# Altium schematic symbol library power_board_evm.SCHLIB: 67 symbols (part 1 of 2)
Pins are listed as number, name and electrical type; pins without a type are passive.

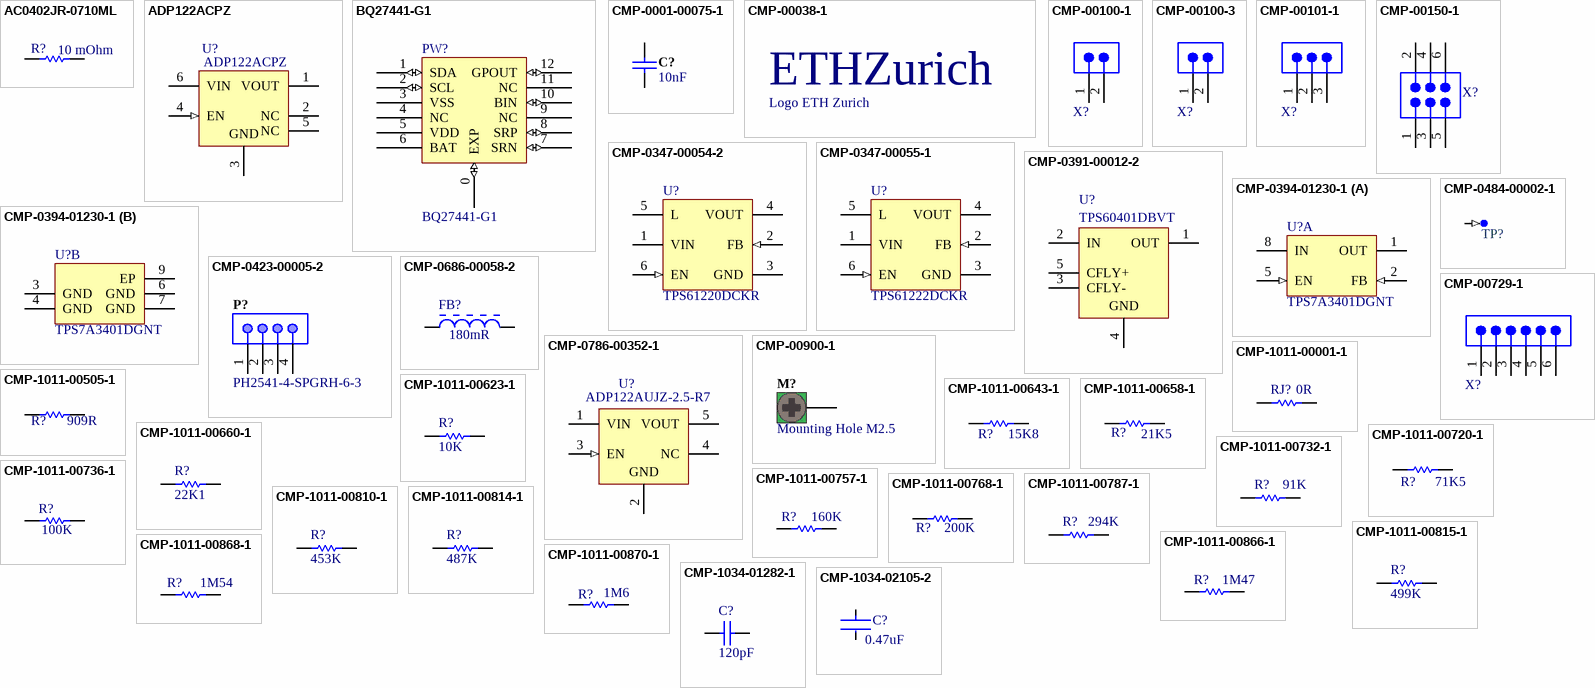
[diagram p0: symbols AC0402JR-0710ML to CMP-1034-02105-2]

## AC0402JR-0710ML
designator R?  value 10 mOhm  (hidden comment: AC0402JR-0710ML)
Manufacturer Part Number: AC0402JR-0710ML; Digi-Key Part Number: YAG3518TR-ND
footprint AC0402JR-0710ML
pins: 1, 2

## ADP122ACPZ
designator U?
Mfr_Name: Analog Devices Inc; Manufacturer_Part_Number: ADP122ACPZ-1.8-R7; Copyright: Copyright (C) 2021 Ultra Librarian. All rights reserved.; Digi-Key_Part_Number_1: ADP122ACPZ-1.8-R7CT-ND; Digi-Key_Part_Number_2: ADP122ACPZ-1.8-R7DKR-ND; Digi-Key_Part_Number_3: ADP122ACPZ-1.8-R7TR-ND; Digi-Key_Part_Number_4: 2156-ADP122ACPZ-1.8-R7-ND; RefDes: RefDes; Type: DEV
footprint CP_6_3_ADI (ADP122ACPZ)
pins: 1 VOUT (power) "Regulated Output Voltage. Bypass VOUT to GND with a capacitor of at least 1 uF.", 2 NC "No Connect. These pins are not internally bonded. They can be left floating or connected to ground.", 3 GND (power) "Ground.", 4 EN (in) "Enable Input. Drive EN high to turn on the regulator; drive EN low to turn off the regulator. For automatic startup, connect EN to VIN.", 5 NC "No Connect. These pins are not internally bonded. They can be left floating or connected to ground.", 6 VIN (power) "Regulator Input Supply. Bypass VIN to GND with a capacitor of at least 1 uF."

## BQ27441-G1
designator PW?
footprint DRZ12_SMALL
pins: 0 EXP (io), 1 SDA (io), 2 SCL (io), 3 VSS (power), 4 NC, 5 VDD (power), 6 BAT (power), 7 SRN (io), 8 SRP (io), 9 NC, 10 BIN (io), 11 NC, 12 GPOUT (io)

## CMP-0001-00075-1
designator C?, comment Capacitance: 10nF  (hidden comment: CC0402KRX7R7BB103)
Capacitor, Yageo, Ceramic, 10nF 10% 16V 0402 (1005) X7R; Manufacturer: Taiyo Yuden; Manufacturer Part Number: EMK105B7103KV-F; Manufacturer: KEMET; Manufacturer Part Number: C0402C103K4RACTU; Manufacturer: Johanson; Manufacturer Part Number: 160R07W103KV4T; Manufacturer: Murata; Manufacturer Part Number: GRM155R71C103KA01D; Manufacturer: TDK; Manufacturer Part Number: C1005X7R1C103K; Manufacturer: Kyocera AVX; Manufacturer Part Number: 0402YC103KAT2A; Polarity: Non-Polarized; Category: Capacitor; Status: Production; ClassName: Board Template Device; Technology: Ceramic; Mounting Technology: Surface Mount; Publisher: Altium; Tolerance: 10 %; Rated Voltage: 16 V; Dielectric: X7R
footprint CAPC1005 (Chip Capacitor 1005)
pins: 1, 2

## CMP-00038-1
designator A?, comment Logo ETH Zurich  (no BOM)
footprint eth-zurich_2mm (Logo ETH Zurich)
footprint eth-zurich_4mm (Logo ETH Zurich)
footprint eth-zurich_5mm (Logo ETH Zurich)
footprint eth-zurich_3mm (Logo ETH Zurich)
text: ETHZurich

## CMP-00100-1
designator X?, comment 68000-102HLF  (value not drawn)
2 CONTACT(S), MALE, STRAIGHT TWO PART BOARD CONNECTOR, SOLDER, 2.54mm, 1x2; Manufacturer: Amphenol FCI; Manufacturer: Amphenol ICC / FCI; Manufacturer Part Number: 68000-202HLF; Connector Type: Header, Unshrouded; Number of Positions: 2; Number of Positions Loaded: All; Packaging: Bulk; Contact Type: Male Pin; Number of Rows: 1; Row Spacing: -; Mounting Type: Through Hole; Termination: Solder; Fastening Type: -; Features: -; Contact Finish: Gold or Gold, GXT™; Contact Finish Thickness: 30µin (0.76µm); Color: Black; Manufacturer Part Number: 68000-102HLF; Supplier: Digi-Key; Supplier Part Number: 609-3500-ND; ComponentLink1Description: 68000.pdf; ComponentLink1URL: http://portal.fciconnect.com/Comergent//fci/drawing/68000.pdf
footprint Pin Header, 1x2 (Terminal Assembly, 1x2 Pins, Vertical, 2.54mm Pitch, Male)
pins: 1, 2

## CMP-00100-3
designator X?, comment 68000-102HLF  (value not drawn)
Manufacturer: Amphenol FCI; Manufacturer: Amphenol ICC / FCI; Manufacturer Part Number: 68000-202HLF; Pitch: 2.54mm; Number of Positions: 2; Connector Type: Male Pin; Current Rating: 3A; Gender: Male; Insulation Resistance: 5GR; Mating Post Length: 5.84mm; Max Voltage Rating (AC): 1.5kV; Packaging: Bulk; Supplier: Digikey; Supplier Part Number: 609-3500-ND; ComponentLink1Description: 68000-274228-5149165.pdf; ComponentLink1URL: https://datasheet.ciiva.com/5149/68000-274228-5149165.pdf; Manufacturer Part Number: 68000-102HLF; Number of Rows: 1; Termination: Solder; Contact Mating Length: 0.23inch; Case/Package: 100; Colour: Black; ComponentLink2Description: 68000-722084.pdf; ComponentLink2URL: https://datasheet.ciiva.com/722/68000-722084.pdf; ComponentLink3Description: 68000-10149324.pdf; ComponentLink3URL: https://datasheet.ciiva.com/10149/68000-10149324.pdf; ComponentLink4Description: 68000-16726309.pdf; ComponentLink4URL: https://datasheet.ciiva.com/16726/68000-16726309.pdf; Contact Gender: Male; Contact Material: Bronze; Contact Plating: Nickel,Gold,GXT; Depth: 2.41mm; Flammability Rating: UL94 V-0; Housing Colour: Black; Housing Material: Thermoplastic; Lead Free: Lead Free; Length: 5.08mm; Max Operating Temperature: 125°C; Min Operating Temperature: -65°C; Number of Contacts: 2; Orientation: Straight; Package Quantity: 100; Radiation Hardening: No; Termination Post Length: 2.41mm; Voltage Rating: 1.5kV; Voltage Rating (DC): 1.5kV
footprint 68000-102HLF (Terminal Assembly, 1x2 Pins, Vertical, 2.54mm Pitch, Male)
pins: 1, 2

## CMP-00101-1
designator X?, comment 68001-203HLF  (value not drawn)
3 CONTACT(S), MALE, STRAIGHT TWO PART BOARD CONNECTOR, SOLDER, 2.54mm, 1x3; Manufacturer: Amphenol FCI; Manufacturer: Amphenol ICC / FCI; Manufacturer Part Number: 68000-103HLF; Manufacturer Part Number: 68000-203HLF; Connector Type: Header, Unshrouded; Number of Positions: 3; Number of Positions Loaded: All; Packaging: Bulk; Contact Type: Male Pin; Number of Rows: 1; Row Spacing: -; Mounting Type: Through Hole; Termination: Solder; Fastening Type: -; Features: -; Contact Finish: Gold or Gold, GXT™; Contact Finish Thickness: 15µin (0.38µm); Color: Black; P/N: 68001-203HLF; Supplier: Digi-Key; Supplier Part Number: 609-3470-ND; ComponentLink1Description: 68000.pdf; ComponentLink1URL: http://portal.fciconnect.com/Comergent//fci/drawing/68000.pdf
footprint Pin Header, 1x3, 2.54mm (Terminal Assembly, 1 Pin, Vertical, 2.54mm Pitch, Male)
pins: 1, 2, 3

## CMP-00150-1
designator X?, comment 67997-206HLF  (value not drawn)
CONN HEADER 2x3 POS 2.54mm Pitch TH Male STR 15AU; Manufacturer: Amphenol FCI; Manufacturer: Amphenol ICC / FCI; Manufacturer Part Number: 67996-106HLF; Manufacturer Part Number: 67996-206HLF; Connector Type: Header, Unshrouded; Number of Positions: 6; Number of Positions Loaded: All; Packaging: Bulk; Contact Type: Male Pin; Number of Rows: 2; Mounting Type: Through Hole; Termination: Solder; Fastening Type: -; Features: -; Contact Finish: Gold or Gold, GXT™; Contact Finish Thickness: 15µin (0.38µm); Color: Black; Manufacturer Part Number: 67997-206HLF; Supplier: Digi-Key; Supplier Part Number: 609-3234-ND; ComponentLink1Description: 67996.pdf; ComponentLink1URL: http://portal.fciconnect.com/Comergent//fci/drawing/67996.pdf
footprint Pin Header, 2x3, TH, 2.54mm Pitch (Terminal Assembly, 2x3 Pin, Vertical, 2.54mm Pitch, Male)
pins: 1, 2, 3, 4, 5, 6

## CMP-0347-00054-2
designator U?, comment TPS61220DCKR
Boost Voltage Converter with 0.7 to 5.5 V Input and 1.8 to 5.5 V Output, -40 to 85 degC, 6-Pin SC70 (DCK), Green (RoHS & no Sb/Br); Manufacturer: Texas Instruments; SubFamily: Step-Up Regulator; Vout(Min)(V): 1.8; Vout(Max)(V): 5.5; Switching Frequency(Max)(kHz): 2000; Vin(Min)(V): 0.7; Regulated Outputs(#): 1; PackageReference: DCK0006A; PackageVersion: revG, Jan-2007; ComponentLink2Description: Package Specification; Topology: Boost; ComponentLink2URL: http://www.ti.com/litv/pdf/mpds114c; PackageDescription: 6-Pin Plastic Small-Outline Package, 2 x 1.3 mm Body, 0.65 mm Pitch, 2.1 mm Lead Span; ComponentLink1Description: Datasheet; DatasheetVersion: SLVS776; ComponentLink1URL: http://www.ti.com/general/docs/lit/getliterature.tsp?genericPartNumber=TPS61220&fileType=pdf; PartNumber: TPS61220DCKR; Code_JEDEC: MO-203-AB; Eco-Plan: Green (RoHS & no Sb/Br); Vin(Max)(V): 5.5; Mounting Technology: Surface Mount; Manufacturer Part Number: TPS61220DCKR
footprint DCK0006A_L (SOT23, 6-Leads, Body 2.15x1.4mm, Pitch 0.65mm, IPC High Density)
footprint DCK0006A_N (SOT23, 6-Leads, Body 2.15x1.4mm, Pitch 0.65mm, IPC Medium Density)
footprint DCK0006A_M (SOT23, 6-Leads, Body 2.15x1.4mm, Pitch 0.65mm, IPC Low Density)
pins: 1 VIN (power) "Boost converter input voltage", 2 FB (in) "Voltage feedback of adjustable version. Must be connected to VOUT at fixed output voltage versions.", 3 GND (power) "Control / logic and power ground", 4 VOUT (power) "Boost converter output voltage", 5 L (power) "Connection for Inductor", 6 EN (in) "Enable input (1: enabled, 0: disabled). Must be actively tied high or low."

## CMP-0347-00055-1
designator U?, comment TPS61222DCKR
Boost Voltage Converter with 0.7 to 5.5 V Input and 5 V Output, -40 to 85 degC, 6-Pin SC70 (DCK), Green (RoHS & no Sb/Br); Manufacturer: Texas Instruments; SubFamily: Step-Up Regulator; Vout(Max)(V): 5; Regulated Outputs(#): 1; Vin(Min)(V): 0.7; Vin(Max)(V): 5.5; Switching Frequency(Max)(kHz): 2000; Topology: Boost; ComponentLink2Description: Package Specification; ComponentLink2URL: http://www.ti.com/litv/pdf/mpds114c; PartNumber: TPS61222DCKR; Vout(Min)(V): 5; Eco-Plan: Green (RoHS & no Sb/Br); DatasheetVersion: SLVS776; PackageVersion: revG, Jan-2007; PackageDescription: 6-Pin Plastic Small-Outline Package, 2 x 1.3 mm Body, 0.65 mm Pitch, 2.1 mm Lead Span; ComponentLink1URL: http://www.ti.com/general/docs/lit/getliterature.tsp?genericPartNumber=TPS61222&fileType=pdf; Code_JEDEC: MO-203-AB; Mounting Technology: Surface Mount; ComponentLink1Description: Datasheet; PackageReference: DCK6; Manufacturer Part Number: TPS61222DCKR
footprint DCK6_L (SOT23, 6-Leads, Body 2x1.3mm, Pitch 0.65mm, Lead Span 2.1mm, IPC High Density)
footprint DCK6_M (SOT23, 6-Leads, Body 2x1.3mm, Pitch 0.65mm, Lead Span 2.1mm, IPC Low Density)
footprint DCK6_N (SOT23, 6-Leads, Body 2x1.3mm, Pitch 0.65mm, Lead Span 2.1mm, IPC Medium Density)
pins: 1 VIN (power) "Boost converter input voltage", 2 FB (in) "Voltage feedback of adjustable version. Must be connected to VOUT at fixed output voltage versions.", 3 GND (power) "Control / logic and power ground", 4 VOUT (power) "Boost converter output voltage", 5 L (power) "Connection for Inductor", 6 EN (in) "Enable input (1: enabled, 0: disabled). Must be actively tied high or low."

## CMP-0391-00012-2
designator U?, comment TPS60401DBVT
-1.8 to -5.25 V, Inverting Charge Pump, 60 mA, 1.8 to 5.25 V Input with 2-Cell Alkaline / Nixx Input, -40 to 85 degC, 5-pin SOT23 (DBV5), Green (RoHS & no Sb/Br); Manufacturer: Texas Instruments; Efficiency(Typ)(%): 99; Iq(Typ)(mA): 0.065; Vin(Max)(V): 5.25; Switching Frequency(Max)(kHz): 25; Vin(Min)(V): 1.8; Topology: Inverting Buck/Boost; Iout(Max)(A): 0.06; Vout(Min)(V): -1.6; 2-Cell Alkaline/Nixx Input: TRUE; DatasheetVersion: SLVS324A; PackageDescription: 5-Pin Plastic Small Outline, Body 1.60 Ãƒâ€” 2.90 mm, Pitch 0.95 mm; Code_JEDEC: MO-178; ComponentLink3URL: http://www.ti.com/litv/pdf/mpds018i; PackageReference: DBV0005A; ComponentLink3Description: Package Specification; Vout(Max)(V): -5.25; Eco-Plan: Green (RoHS & no Sb/Br); PackageVersion: 4073253-4/K; Mounting Technology: Surface Mount; ComponentLink1URL: http://www.ti.com/; ComponentLink2URL: http://www.ti.com/general/docs/lit/getliterature.tsp?genericPartNumber=TPS60401&fileType=pdf; PartNumber: TPS60401DBVT; ComponentLink2Description: Datasheet; ComponentLink1Description: Manufacturer URL; Manufacturer Part Number: TPS60401DBVT
footprint DBV0005A_N (SOT23, 5-Leads, Body 3.05x1.75mm, Pitch 0.95mm, IPC Medium Density)
footprint DBV0005A_M (SOT23, 5-Leads, Body 3.05x1.75mm, Pitch 0.95mm, IPC Low Density)
footprint DBV0005A_L (SOT23, 5-Leads, Body 3.05x1.75mm, Pitch 0.95mm, IPC High Density)
pins: 1 OUT (power) "Power output with VO = -VI Bypass OUT to GND with the output filter capacitor CO.", 2 IN (power) "Supply input. Connect to an input supply in the 1.6-V to 5.5-V range. Bypass IN to GND with a capacitor that has the same value as the flying capacitor.", 3 CFLY- "Negative terminal of the flying capacitor C(fly)", 4 GND (power) "Ground", 5 CFLY+ "Positive terminal of the flying capacitor C(fly)"

## CMP-0394-01230-1
designator U?, comment TPS7A3401DGNT
Single Output Low Noise LDO, 200 mA, Adjustable -1.18 to -18 V Output, -3 to -20 V Input, 8-pin MSOP (DGN), -40 to 125 degC, Green (RoHS & no Sb/Br); Manufacturer: Texas Instruments; Accuracy(%): 1.5; Iout(Max)(A): 0.2; SubFamily: Single Channel LDO; Iq(Typ)(mA): 0.05; Vdo(Typ)(mV): 216; Vin(Min)(V): -3; PartNumber: TPS7A3401DGNT; ComponentLink3URL: http://www.ti.com/litv/pdf/mpds046e; DatasheetVersion: SBVS163; PackageVersion: 4073271/F; Code_JEDEC: MO-187; PackageDescription: 8-pin Plastic Small Outline, Body 3 x 3 mm, Pitch 0.65 mm; PackageReference: DGN8-1760X1425TP; ComponentLink1URL: http://www.ti.com/; ComponentLink2Description: Datasheet; Eco-Plan: Green (RoHS & no Sb/Br); Mounting Technology: Surface Mount; ComponentLink1Description: Manufacturer URL; Vout Adj(Min)(V): -1.18; ComponentLink2URL: http://www.ti.com/general/docs/lit/getliterature.tsp?genericPartNumber=TPS7A3401&fileType=pdf; ComponentLink3Description: Package Specification; Vout Adj(Max)(V): -18; Vin(Max)(V): -20; PartId: 1; Manufacturer Part Number: TPS7A3401DGNT
footprint TI-DGN8-1760X1425TP_M (SOIC, 8-Leads, Body 3x3mm, Pitch 0.65mm, Thermal Pad 1.76x1.425mm, IPC Low Density)
footprint TI-DGN8-1760X1425TP_N (SOIC, 8-Leads, Body 3x3mm, Pitch 0.65mm, Thermal Pad 1.76x1.425mm, IPC Medium Density)
footprint TI-DGN8-1760X1425TP_L (SOIC, 8-Leads, Body 3x3mm, Pitch 0.65mm, Thermal Pad 1.76x1.425mm, IPC High Density)
part A pins: 1 OUT (power) "Regulator output. A capacitor >= 10 uF must be tied from this pin to ground to assure stability.", 2 FB (in) "This pin is the input to the control-loop error amplifier. It is used to set the output voltage of the device.", 5 EN (in) "This pin turns the regulator on or off. If VEN >= V+EN_HI or VEN =< V-EN_HI, the regulator is enabled. If V+EN_LO >= VEN >= V-EN_LO, the regulator is disabled. The EN pin can be connected to IN, if not used. |VEN| =< |VIN|.", 8 IN (power) "Input supply"
part B pins: 3 GND (power) "Ground", 4 GND (power) "Ground", 6 GND (power) "Ground", 7 GND (power) "Ground", 9 EP (power) "Must either be left open or tied to GND. Solder to printed circuit board (PCB) plane to enhance thermal performance."

## CMP-0423-00005-2
designator P?, comment PH2541-4-SPGRH-6-3
Male Header, Pitch 2.54 mm, 1x4 Position, Mated Height 6 mm, Tail Length 3 mm; Manufacturer: Pinchao Electronic; Contact Meaterial: Brass; Insulator resistance (Min.): 1000 Megohms; No. of Rows: 1; Insulator Material: PBT; Current Rating: 3 Amps; Pitch: 2.54 mm; Dielectric Withstaanding: 600 AC/DC; No. of positions: 4; Contact Resistance (Max): 20 Megohms; Connector Type: Male Header; PackageDescription: Male Header, Pitch 2.54 mm, 1x4 Position, Mated Height 6 mm, Tail Length 3 mm; ComponentLink1URL: http://www.suzhoupinchao.com/; Mounting Technology: Through Hole; Operating Temperature: -40 to 105 degC; PartNumber: PH2541-4-SPGRH-6-3; PackageReference: PH2541-4-SPGRH-6-3; ComponentLink1Description: Manufacturer URL
footprint PCE-PH2541-4-SPGRH-6-3_V (Male Header, Pitch 2.54mm, 1x4 Position, Mated Height 6mm, Tail Length 3mm)
pins: 1, 2, 3, 4

## CMP-0484-00002-1
designator TP?, comment TP-SM-C-100  (value not drawn)  (no BOM)
Test Point, Surface Mount, Circular, Pad Diameter 1 mm; Manufacturer: ALTIUM; Manufacturer: No Vendor; Manufacturer Part Number: TP-SM-C-100
footprint TP-SM-C-100 (Test Point, Surface Mounting, Circular, Pad Diameter 1mm)
pins: 1 (in)

## CMP-0686-00058-2
designator FB?, comment 180mR
Chip Ferrite Bead for Power lines and Signal Lines, 80 Ohm, 500 mA, -55 to 125 degC, 0.6 x 0.3 x 0.33 mm SMD, Tape and Reel; Manufacturer: Murata; PartNumber: BLM03AX800SN1D; DC Resistance: 0.18 Ohm Max.; Rated Current: 500 mA; Impedance (at 100 MHz): 80 Ohm +/- 25%; Material: Steel; Impedance: 80R; Current Rating: 500mA; Test Frequency: 100MHz; Tolerance: 25%; Number of Lines: 1; PackageReference: BLM03-2; ComponentLink2URL: http://www.murata.com/products/catalog/pdf/c31e.pdf; ComponentLink2Description: Datasheet; ComponentLink1Description: Manufacturer URL; DatasheetVersion: 08/2013; ComponentLink1URL: http://www.murata.com/; ComponentLink3Description: Package Specification; ComponentLink3URL: http://www.murata.com/products/catalog/pdf/c31e.pdf; PackageDescription: 2-Pin Chip, Body 0.6 x 0.3 mm; Packing: Tape and Reel; Operating Temperature Range: -55 to 125 degC; Mounting Technology: Surface Mount; Supplier 1: Digi-Key; Supplier Part Number 1: 490-5621-1-ND; Manufacturer Part Number: BLM03AX800SN1D; RoHS: Yes; Category: Inductors; Stock 1: 13310; Pricing 1: 1=0.19000, 10=0.15200, 25=0.11840, 50=0.09820, 100=0.08470, 250=0.06776, 500=0.06098, 1000=0.05082, 5000=0.04743 (USD); Case/Package: 0201; Number of Pins: 2; Case Code (Metric): 0603; Case Code (Imperial): 0201; Min Operating Temperature: -55°C; Max Operating Temperature: 125°C; Package Quantity: 1; Packaging: Tape and Reel; DC Resistance (DCR): 180mR; Max DC Current: 500mA; Termination: SMD/SMT; Max Current Rating: 500mA; Number of Circuits: 1; Length: 0.6mm; Height: 0.3mm; Width: 0.3mm; REACH SVHC: No SVHC; ComponentLink4URL: https://datasheet.ciiva.com/1013/l0110s0100blm03ax-1013986.pdf?src-supplier=Digi-Key; ComponentLink4Description: https://datasheet.ciiva.com/1013/l0110s0100blm03ax-1013986.pdf?src-supplier=Digi-Key; ComponentLink5URL: https://datasheet.ciiva.com/41449/001172131-da-01-en-drossel-0201-80r-0-6x0-3mm-15000st-41449422.pdf?src-supplier=Conrad; ComponentLink5Description: https://datasheet.ciiva.com/41449/001172131-da-01-en-drossel-0201-80r-0-6x0-3mm-15000st-41449422.pdf?src-supplier=Conrad; ComponentLink6URL: https://datasheet.ciiva.com/1013/l0110e-1013987.pdf?src-supplier=Digi-Key; ComponentLink6Description: https://datasheet.ciiva.com/1013/l0110e-1013987.pdf?src-supplier=Digi-Key; ComponentLink7URL: https://datasheet.ciiva.com/1013/l0110e-1013988.pdf?src-supplier=Digi-Key; ComponentLink7Description: https://datasheet.ciiva.com/1013/l0110e-1013988.pdf?src-supplier=Digi-Key; ComponentLink8URL: https://datasheet.ciiva.com/46423/1851884-46423882.pdf?src-supplier=Element14; ComponentLink8Description: https://datasheet.ciiva.com/46423/1851884-46423882.pdf?src-supplier=Element14
footprint MURA-BLM03-CHIP-2_V (Chip Ferrite Bead, 2-Leads, Body 0.6x0.3mm, Height 0.33mm, Reflow, 0.9A max Rated Current)
pins: 1, 2

## CMP-00729-1
designator X?, comment 68000-106HLF  (value not drawn)
Manufacturer: Amphenol ICC / FCI; Current Rating: 3A; Voltage Rating: 1.5kV; Number of Positions: 6; Insulation Resistance: 5GR; Gender: Male; Connector Type: Male Pin; Mating Post Length: 5.84mm; Pitch: 2.54mm; Mount: Through Hole; Contact Plating: Nickel, Gold, GXT; Contact Material: Bronze; Colour: Black; Housing Colour: Black; Housing Material: Thermoplastic; Min Operating Temperature: -65°C; Max Operating Temperature: 125°C; Contact Gender: Male; Package Quantity: 100; Number of Rows: 1; Packaging: Bulk; Termination: Solder; Max Voltage Rating (AC): 1.5kV; Number of Contacts: 6; Orientation: Straight; Length: 15.24mm; Termination Post Length: 2.41mm; Contact Mating Length: 0.23inch; Depth: 2.41mm; Radiation Hardening: No; REACH SVHC: No SVHC; Flammability Rating: UL94 V-0; Manufacturer Part Number: 68000-106HLF
footprint 68000-106HLF (Terminal Assembly, 1x6 Pin, Vertical, 2.54mm Pitch, Male, TH)
pins: 1, 2, 3, 4, 5, 6

## CMP-0786-00352-1
designator U?, comment ADP122AUJZ-2.5-R7
300 mA, Low Quiescent Current, CMOS Linear Regulator, 2.3 to 5.5 V Vin, 2.5 V Vout, Industrial, 5-pin SOT23 (UJ-5), Reel; Manufacturer: Analog Devices; Supply Current IGND @ Small Load: 45uA; Iout max: 300mA; Vin (min) (V): 2.3; Preset Vout Values (V): 2.5; Vin (max) (V): 5.5; ComponentLink3URL: http:/www.analog.com/static/imported-files/packages/PKG_PDF/TSOT(UJ)/UJ_5.pdf; ComponentLink4Description: URL Link1; Mounting Technology: Surface Mount; DatasheetVersion: Rev. E; Packing: Reel; ComponentLink2Description: Datasheet; ComponentLink3Description: Package Specification; PackageDescription: 5-Pin Thin Small Outline Transistor Package, Body 2.9 x 1.6 mm, Pitch 0.95 mm; Code_JEDEC: MO-193-AB; PartNumber: ADP122AUJZ-2.5-R7; PackageReference: UJ-5; PackageVersion: 100708-A, 10/2008; ComponentLink1Description: Manufacturer URL; ComponentLink1URL: http://www.analog.com/en/index.html; ComponentLink2URL: http://www.analog.com/static/imported-files/data_sheets/ADP122_123.pdf; ComponentLink4URL: Product URL:http://www.analog.com/en/ADP122/productSearch.html; Manufacturer Part Number: ADP122AUJZ-2.5-R7
footprint ADI-UJ-5_M (SOT23, 5-Leads, Body 2.9x1.6mm, Pitch 0.95mm, IPC Low Density)
footprint ADI-UJ-5_N (SOT23, 5-Leads, Body 2.9x1.6mm, Pitch 0.95mm, IPC Medium Density)
footprint ADI-UJ-5_L (SOT23, 5-Leads, Body 2.9x1.6mm, Pitch 0.95mm, IPC High Density)
pins: 1 VIN (power) "Regulator Input Supply. Bypass VIN to GND with a capacitor of at least 1 uF.", 2 GND (power) "Ground.", 3 EN (in) "Enable Input. Drive EN high to turn on the regulator; drive EN low to turn off the regulator. For automatic startup, connect EN to VIN.", 4 NC "No Connect. These pins are not internally bonded. They can be left floating or connected to ground.", 5 VOUT (power) "Regulated Output Voltage. Bypass VOUT to GND with a capacitor of at least 1 uF."

## CMP-00900-1
designator M?, comment Mounting Hole M2.5  (no BOM)
Mounting Hole, 4.5mm pad, 2.7mm plated hole; ClassName: Mounting Hole
footprint Hole M2.5 (Plated Thru Hole 2.7mm, Pad 4.5mm)
pins: 1

## CMP-1011-00001-1
designator RJ?, comment value 0R  (hidden comment: Jumper 0402(1005))
Jumper 0402 (1005 Metric); Manufacturer: Yageo; Manufacturer Part Number: RC0402JR-070RL; Manufacturer: Bourns; Manufacturer Part Number: CR0402-J/-000GLF; Manufacturer: Panasonic; Manufacturer Part Number: ERJ-2GE0R00X; Manufacturer: Vishay Dale; Manufacturer Part Number: CRCW04020000Z0TD; Manufacturer Part Number: CRCW04020000Z0EE; Manufacturer: Vishay; Manufacturer Part Number: CRCW04020000Z0ED; Tolerance: None; Case-Metric: 1005; Case-EIA: 0402; Power: None; Technology: SMT
footprint RESC0402(1005)_N (Chip Resistor, Body 1.0x0.5mm, IPC Medium Density)
footprint RESC0402(1005)_L (Chip Resistor, Body 1.0x0.5mm, IPC High Density)
footprint RESC0402(1005)_M (Chip Resistor, Body 1.0x0.5mm, IPC Low Density)
pins: 1, 2
1 alternate drawing of the same symbol

## CMP-1011-00505-1
designator R?, comment value 909R  (hidden comment: 909R 1% 0402(1005))
909R 0.063W 1% 0402 (1005 Metric)  SMD; Manufacturer: Yageo; Manufacturer Part Number: RC0402FR-07909RL; Manufacturer: Panasonic; Manufacturer Part Number: ERJ-2RKF9090X; Manufacturer: Vishay Dale; Manufacturer Part Number: CRCW0402909RFKTD; Manufacturer: Vishay; Manufacturer Part Number: CRCW0402909RFKED; Manufacturer: Bourns; Manufacturer Part Number: CR0402-FX-9090GLF; Case-EIA: 0402; Case-Metric: 1005; Tolerance: 1 %; Technology: SMT; Power: 0.063 W
footprint RESC0402(1005)_M (Chip Resistor, Body 1.0x0.5mm, IPC Low Density)
footprint RESC0402(1005)_L (Chip Resistor, Body 1.0x0.5mm, IPC High Density)
footprint RESC0402(1005)_N (Chip Resistor, Body 1.0x0.5mm, IPC Medium Density)
pins: 1, 2
1 alternate drawing of the same symbol

## CMP-1011-00623-1
designator R?, comment value 10K  (hidden comment: 10K 1% 0402(1005))
10K 0.063W 1% 0402 (1005 Metric)  SMD; Case-Metric: 1005; Case-EIA: 0402; Tolerance: 1 %; Technology: SMT; Power: 0.063 W
footprint RESC0402(1005)_N (Chip Resistor, Body 1.0x0.5mm, IPC Medium Density)
footprint RESC0402(1005)_M (Chip Resistor, Body 1.0x0.5mm, IPC Low Density)
footprint RESC0402(1005)_L (Chip Resistor, Body 1.0x0.5mm, IPC High Density)
pins: 1, 2
1 alternate drawing of the same symbol

## CMP-1011-00643-1
designator R?, comment value 15K8  (hidden comment: 15K8 1% 0402(1005))
15K8 0.063W 1% 0402 (1005 Metric)  SMD; Manufacturer: Vishay Dale; Manufacturer Part Number: CRCW040215K8FKTD; Manufacturer: Yageo; Manufacturer Part Number: RC0402FR-0715K8L; Manufacturer: Vishay; Manufacturer Part Number: CRCW040215K8FKED; Manufacturer: Panasonic; Manufacturer Part Number: ERJ-2RKF1582X; Manufacturer: Bourns JW Miller; Manufacturer Part Number: CR0402-FX-1582GLF; Case-Metric: 1005; Case-EIA: 0402; Tolerance: 1 %; Power: 0.063 W; Technology: SMT
footprint RESC0402(1005)_N (Chip Resistor, Body 1.0x0.5mm, IPC Medium Density)
footprint RESC0402(1005)_M (Chip Resistor, Body 1.0x0.5mm, IPC Low Density)
footprint RESC0402(1005)_L (Chip Resistor, Body 1.0x0.5mm, IPC High Density)
pins: 1, 2
1 alternate drawing of the same symbol

## CMP-1011-00658-1
designator R?, comment value 21K5  (hidden comment: 21K5 1% 0402(1005))
21K5 0.063W 1% 0402 (1005 Metric)  SMD; Manufacturer: Vishay Dale; Manufacturer Part Number: CRCW040221K5FKTD; Manufacturer: Panasonic; Manufacturer Part Number: ERJ-2RKF2152X; Manufacturer Part Number: CRCW040221K5FKEE; Manufacturer: Vishay; Manufacturer Part Number: CRCW040221K5FKED; Manufacturer: Bourns; Manufacturer Part Number: CR0402-FX-2152GLF; Manufacturer: Yageo; Manufacturer Part Number: RC0402FR-0721K5L; Case-EIA: 0402; Case-Metric: 1005; Tolerance: 1 %; Power: 0.063 W; Technology: SMT
footprint RESC0402(1005)_M (Chip Resistor, Body 1.0x0.5mm, IPC Low Density)
footprint RESC0402(1005)_L (Chip Resistor, Body 1.0x0.5mm, IPC High Density)
footprint RESC0402(1005)_N (Chip Resistor, Body 1.0x0.5mm, IPC Medium Density)
pins: 1, 2
1 alternate drawing of the same symbol

## CMP-1011-00660-1
designator R?, comment value 22K1  (hidden comment: 22K1 1% 0402(1005))
22K1 0.063W 1% 0402 (1005 Metric)  SMD; Manufacturer: Panasonic; Manufacturer Part Number: ERJ-2RKF2212X; Manufacturer: Bourns; Manufacturer Part Number: CR0402-FX-2212GLF; Manufacturer: Vishay; Manufacturer Part Number: CRCW040222K1FKED; Manufacturer: Vishay Dale; Manufacturer Part Number: CRCW040222K1FKTD; Manufacturer: Yageo; Manufacturer Part Number: RC0402FR-0722K1L; Case-EIA: 0402; Case-Metric: 1005; Technology: SMT; Tolerance: 1 %; Power: 0.063 W
footprint RESC0402(1005)_M (Chip Resistor, Body 1.0x0.5mm, IPC Low Density)
footprint RESC0402(1005)_L (Chip Resistor, Body 1.0x0.5mm, IPC High Density)
footprint RESC0402(1005)_N (Chip Resistor, Body 1.0x0.5mm, IPC Medium Density)
pins: 1, 2
1 alternate drawing of the same symbol

## CMP-1011-00720-1
designator R?, comment value 71K5  (hidden comment: 71K5 1% 0402(1005))
71K5 0.063W 1% 0402 (1005 Metric)  SMD; Manufacturer: Vishay; Manufacturer Part Number: CRCW040271K5FKED; Manufacturer: Vishay Dale; Manufacturer Part Number: CRCW040271K5FKTD; Manufacturer: Bourns; Manufacturer Part Number: CR0402-FX-7152GLF; Manufacturer: Panasonic; Manufacturer Part Number: ERJ-2RKF7152X; Manufacturer: Yageo; Manufacturer Part Number: RC0402FR-0771K5L; Case-EIA: 0402; Case-Metric: 1005; Power: 0.063 W; Technology: SMT; Tolerance: 1 %
footprint RESC0402(1005)_M (Chip Resistor, Body 1.0x0.5mm, IPC Low Density)
footprint RESC0402(1005)_N (Chip Resistor, Body 1.0x0.5mm, IPC Medium Density)
footprint RESC0402(1005)_L (Chip Resistor, Body 1.0x0.5mm, IPC High Density)
pins: 1, 2
1 alternate drawing of the same symbol

## CMP-1011-00732-1
designator R?, comment value 91K  (hidden comment: 91K 1% 0402(1005))
91K 0.063W 1% 0402 (1005 Metric)  SMD; Manufacturer: Panasonic; Manufacturer Part Number: ERJ-2RKF9102X; Manufacturer: Bourns; Manufacturer Part Number: CR0402-FX-9102GLF; Manufacturer: Vishay; Manufacturer Part Number: CRCW040291K0FKED; Manufacturer: Yageo; Manufacturer Part Number: RC0402FR-0791KL; Manufacturer: Vishay Dale; Manufacturer Part Number: CRCW040291K0FKTD; Case-EIA: 0402; Case-Metric: 1005; Technology: SMT; Power: 0.063 W; Tolerance: 1 %
footprint RESC0402(1005)_M (Chip Resistor, Body 1.0x0.5mm, IPC Low Density)
footprint RESC0402(1005)_N (Chip Resistor, Body 1.0x0.5mm, IPC Medium Density)
footprint RESC0402(1005)_L (Chip Resistor, Body 1.0x0.5mm, IPC High Density)
pins: 1, 2
1 alternate drawing of the same symbol

## CMP-1011-00736-1
designator R?, comment value 100K  (hidden comment: 100K 1% 0402(1005))
100K 0.063W 1% 0402 (1005 Metric)  SMD; Manufacturer: Vishay Dale; Manufacturer Part Number: CRCW0402100KFKTD; Manufacturer: Vishay; Manufacturer Part Number: CRCW0402100KFKED; Manufacturer Part Number: CRCW0402100KFKEE; Manufacturer: Yageo; Manufacturer Part Number: RC0402FR-07100KL; Manufacturer: Panasonic; Manufacturer Part Number: ERJ-2RKF1003X; Manufacturer: Bourns; Manufacturer Part Number: CR0402-FX-1003GLF; Case-EIA: 0402; Case-Metric: 1005; Power: 0.063 W; Tolerance: 1 %; Technology: SMT
footprint RESC0402(1005)_M (Chip Resistor, Body 1.0x0.5mm, IPC Low Density)
footprint RESC0402(1005)_N (Chip Resistor, Body 1.0x0.5mm, IPC Medium Density)
footprint RESC0402(1005)_L (Chip Resistor, Body 1.0x0.5mm, IPC High Density)
pins: 1, 2
1 alternate drawing of the same symbol

## CMP-1011-00757-1
designator R?, comment value 160K  (hidden comment: 160K 1% 0402(1005))
160K 0.063W 1% 0402 (1005 Metric)  SMD; Manufacturer: Panasonic; Manufacturer Part Number: ERJ-2RKF1603X; Manufacturer: Vishay; Manufacturer Part Number: CRCW0402160KFKED; Manufacturer: Bourns; Manufacturer Part Number: CR0402-FX-1603GLF; Manufacturer: Vishay Dale; Manufacturer Part Number: CRCW0402160KFKTD; Manufacturer: Yageo; Manufacturer Part Number: RC0402FR-07160KL; Case-EIA: 0402; Case-Metric: 1005; Technology: SMT; Power: 0.063 W; Tolerance: 1 %
footprint RESC0402(1005)_M (Chip Resistor, Body 1.0x0.5mm, IPC Low Density)
footprint RESC0402(1005)_L (Chip Resistor, Body 1.0x0.5mm, IPC High Density)
footprint RESC0402(1005)_N (Chip Resistor, Body 1.0x0.5mm, IPC Medium Density)
pins: 1, 2
1 alternate drawing of the same symbol

## CMP-1011-00768-1
designator R?, comment value 200K  (hidden comment: 200K 1% 0402(1005))
200K 0.063W 1% 0402 (1005 Metric)  SMD; Manufacturer: Panasonic; Manufacturer Part Number: ERJ-2RKF2003X; Manufacturer: Vishay Dale; Manufacturer Part Number: CRCW0402200KFKEE; Manufacturer: Yageo; Manufacturer Part Number: RC0402FR-07200KL; Manufacturer Part Number: CRCW0402200KFKTD; Manufacturer: Bourns; Manufacturer Part Number: CR0402-FX-2003GLF; Manufacturer: Vishay; Manufacturer Part Number: CRCW0402-200KFKED; Case-Metric: 1005; Case-EIA: 0402; Tolerance: 1 %; Power: 0.063 W; Technology: SMT
footprint RESC0402(1005)_L (Chip Resistor, Body 1.0x0.5mm, IPC High Density)
footprint RESC0402(1005)_M (Chip Resistor, Body 1.0x0.5mm, IPC Low Density)
footprint RESC0402(1005)_N (Chip Resistor, Body 1.0x0.5mm, IPC Medium Density)
pins: 1, 2
1 alternate drawing of the same symbol

## CMP-1011-00787-1
designator R?, comment value 294K  (hidden comment: 294K 1% 0402(1005))
294K 0.063W 1% 0402 (1005 Metric)  SMD; Manufacturer: Yageo; Manufacturer Part Number: RC0402FR-07294KL; Manufacturer: Bourns; Manufacturer Part Number: CR0402-FX-2943GLF; Manufacturer: Vishay Dale; Manufacturer Part Number: CRCW0402294KFKTD; Manufacturer: Panasonic; Manufacturer Part Number: ERJ-2RKF2943X; Manufacturer: Vishay; Manufacturer Part Number: CRCW0402294KFKED; Case-EIA: 0402; Case-Metric: 1005; Power: 0.063 W; Technology: SMT; Tolerance: 1 %
footprint RESC0402(1005)_L (Chip Resistor, Body 1.0x0.5mm, IPC High Density)
footprint RESC0402(1005)_M (Chip Resistor, Body 1.0x0.5mm, IPC Low Density)
footprint RESC0402(1005)_N (Chip Resistor, Body 1.0x0.5mm, IPC Medium Density)
pins: 1, 2
1 alternate drawing of the same symbol

## CMP-1011-00810-1
designator R?, comment value 453K  (hidden comment: 453K 1% 0402(1005))
453K 0.063W 1% 0402 (1005 Metric)  SMD; Manufacturer: Bourns; Manufacturer Part Number: CR0402-FX-4533GLF; Manufacturer: Panasonic; Manufacturer Part Number: ERJ-2RKF4533X; Manufacturer: Vishay; Manufacturer Part Number: CRCW0402453KFKED; Manufacturer: Yageo; Manufacturer Part Number: RC0402FR-07453KL; Manufacturer: Vishay Dale; Manufacturer Part Number: CRCW0402453KFKTD; Case-Metric: 1005; Case-EIA: 0402; Tolerance: 1 %; Power: 0.063 W; Technology: SMT
footprint RESC0402(1005)_L (Chip Resistor, Body 1.0x0.5mm, IPC High Density)
footprint RESC0402(1005)_M (Chip Resistor, Body 1.0x0.5mm, IPC Low Density)
footprint RESC0402(1005)_N (Chip Resistor, Body 1.0x0.5mm, IPC Medium Density)
pins: 1, 2
1 alternate drawing of the same symbol

## CMP-1011-00814-1
designator R?, comment value 487K  (hidden comment: 487K 1% 0402(1005))
487K 0.063W 1% 0402 (1005 Metric)  SMD; Manufacturer: Panasonic; Manufacturer Part Number: ERJ-2RKF4873X; Manufacturer: Vishay Dale; Manufacturer Part Number: CRCW0402487KFKTD; Manufacturer: Vishay; Manufacturer Part Number: CRCW0402487KFKED; Manufacturer: Bourns; Manufacturer Part Number: CR0402-FX-4873GLF; Manufacturer: Yageo; Manufacturer Part Number: RC0402FR-07487KL; Case-Metric: 1005; Case-EIA: 0402; Technology: SMT; Power: 0.063 W; Tolerance: 1 %
footprint RESC0402(1005)_L (Chip Resistor, Body 1.0x0.5mm, IPC High Density)
footprint RESC0402(1005)_M (Chip Resistor, Body 1.0x0.5mm, IPC Low Density)
footprint RESC0402(1005)_N (Chip Resistor, Body 1.0x0.5mm, IPC Medium Density)
pins: 1, 2
1 alternate drawing of the same symbol

## CMP-1011-00815-1
designator R?, comment value 499K  (hidden comment: 499K 1% 0402(1005))
499K 0.063W 1% 0402 (1005 Metric)  SMD; Manufacturer: Bourns; Manufacturer Part Number: CR0402-FX-4993GLF; Manufacturer: Panasonic; Manufacturer Part Number: ERJ-2RKF4993X; Manufacturer: Vishay; Manufacturer Part Number: CRCW0402499KFKED; Manufacturer: Yageo; Manufacturer Part Number: RC0402FR-07499KL; Manufacturer: Vishay Dale; Manufacturer Part Number: CRCW0402499KFKTD; Case-EIA: 0402; Case-Metric: 1005; Tolerance: 1 %; Power: 0.063 W; Technology: SMT
footprint RESC0402(1005)_N (Chip Resistor, Body 1.0x0.5mm, IPC Medium Density)
footprint RESC0402(1005)_L (Chip Resistor, Body 1.0x0.5mm, IPC High Density)
footprint RESC0402(1005)_M (Chip Resistor, Body 1.0x0.5mm, IPC Low Density)
pins: 1, 2
1 alternate drawing of the same symbol

## CMP-1011-00866-1
designator R?, comment value 1M47  (hidden comment: 1M47 1% 0402(1005))
1M47 0.063W 1% 0402 (1005 Metric)  SMD; Manufacturer: Yageo; Manufacturer Part Number: RC0402FR-071M47L; Manufacturer: Vishay Dale; Manufacturer Part Number: CRCW04021M47FKTD; Manufacturer: Vishay; Manufacturer Part Number: CRCW04021M47FKED; Case-EIA: 0402; Case-Metric: 1005; Power: 0.063 W; Technology: SMT; Tolerance: 1 %
footprint RESC0402(1005)_M (Chip Resistor, Body 1.0x0.5mm, IPC Low Density)
footprint RESC0402(1005)_N (Chip Resistor, Body 1.0x0.5mm, IPC Medium Density)
footprint RESC0402(1005)_L (Chip Resistor, Body 1.0x0.5mm, IPC High Density)
pins: 1, 2
1 alternate drawing of the same symbol

## CMP-1011-00868-1
designator R?, comment value 1M54  (hidden comment: 1M54 1% 0402(1005))
1M54 0.063W 1% 0402 (1005 Metric)  SMD; Manufacturer: Vishay Dale; Manufacturer Part Number: CRCW04021M54FKTD; Manufacturer: Yageo; Manufacturer Part Number: RC0402FR-071M54L; Manufacturer: Vishay; Manufacturer Part Number: CRCW04021M54FKED; Case-EIA: 0402; Case-Metric: 1005; Technology: SMT; Power: 0.063 W; Tolerance: 1 %
footprint RESC0402(1005)_N (Chip Resistor, Body 1.0x0.5mm, IPC Medium Density)
footprint RESC0402(1005)_M (Chip Resistor, Body 1.0x0.5mm, IPC Low Density)
footprint RESC0402(1005)_L (Chip Resistor, Body 1.0x0.5mm, IPC High Density)
pins: 1, 2
1 alternate drawing of the same symbol

## CMP-1011-00870-1
designator R?, comment value 1M6  (hidden comment: 1M6 1% 0402(1005))
1M6 0.063W 1% 0402 (1005 Metric)  SMD; Manufacturer: Vishay; Manufacturer Part Number: CRCW04021M60FKED; Manufacturer: Vishay Dale; Manufacturer Part Number: CRCW04021M60FKTD; Manufacturer: Yageo; Manufacturer Part Number: RC0402FR-071M6L; Case-EIA: 0402; Case-Metric: 1005; Power: 0.063 W; Technology: SMT; Tolerance: 1 %
footprint RESC0402(1005)_L (Chip Resistor, Body 1.0x0.5mm, IPC High Density)
footprint RESC0402(1005)_N (Chip Resistor, Body 1.0x0.5mm, IPC Medium Density)
footprint RESC0402(1005)_M (Chip Resistor, Body 1.0x0.5mm, IPC Low Density)
pins: 1, 2
1 alternate drawing of the same symbol

## CMP-1034-01282-1
designator C?, comment value 120pF  (hidden comment: CAP 120pF 100V 0402(1005))
CAP 120pF 100V ±20% 0402 (1005 Metric) Thickness 0.6mm SMD; Manufacturer: Vishay Vitramon; Manufacturer Part Number: VJ0402Y121MXBAC; Case-EIA: 0402; Tolerance: Â±20%; Case-Metric: 1005; Max Thickness: 0.6 mm; Technology: SMT; Rated Voltage: 100 V
footprint CAPC0402(1005)60_N (Chip Capacitor, Body 1.0x0.5mm, Height 0.6mm, IPC Medium Density)
footprint CAPC0402(1005)60_M (Chip Capacitor, Body 1.0x0.5mm, Height 0.6mm, IPC Low Density)
footprint CAPC0402(1005)60_L (Chip Capacitor, Body 1.0x0.5mm, Height 0.6mm, IPC High Density)
pins: 1, 2
1 alternate drawing of the same symbol

## CMP-1034-02105-2
designator C?, comment Capacitance: 0.47uF  (hidden comment: CC0402ZRY5V5BB474)
CAP CER 0.47UF 6.3V Y5V 0402; Manufacturer: KEMET; Manufacturer Part Number: C0402C474Z9VAC; Manufacturer: Yageo; Tolerance: 80%; Packaging: Tape and Reel; Thickness: 0.022inch; Lead Free: Lead Free; Weight: 2.3E-05oz; Width: 0.02inch; Halogen Free: Halogen Free; Series: CC; Depth: 0.5mm; Max Operating Temperature: 85°C; RoHS Compliant: Yes; Length: 0.039inch; Voltage Rating (DC): 6.3V; Case Code (Metric): 1005; Resistor Type: Ceramic; Dielectric: Y5V; Case/Package: 0402; Min Operating Temperature: -30°C; Mount: Surface Mount; Case Code (Imperial): 0402; Termination: SMD/SMT; Voltage Rating: 6.3V; Manufacturer Part Number: CC0402ZRY5V5BB474
footprint FP-CC0402-CA-IPC_B
footprint FP-CC0402-CA-IPC_A
footprint FP-CC0402-CA-MFG
footprint FP-CC0402-CA-IPC_C
pins: 1, 2

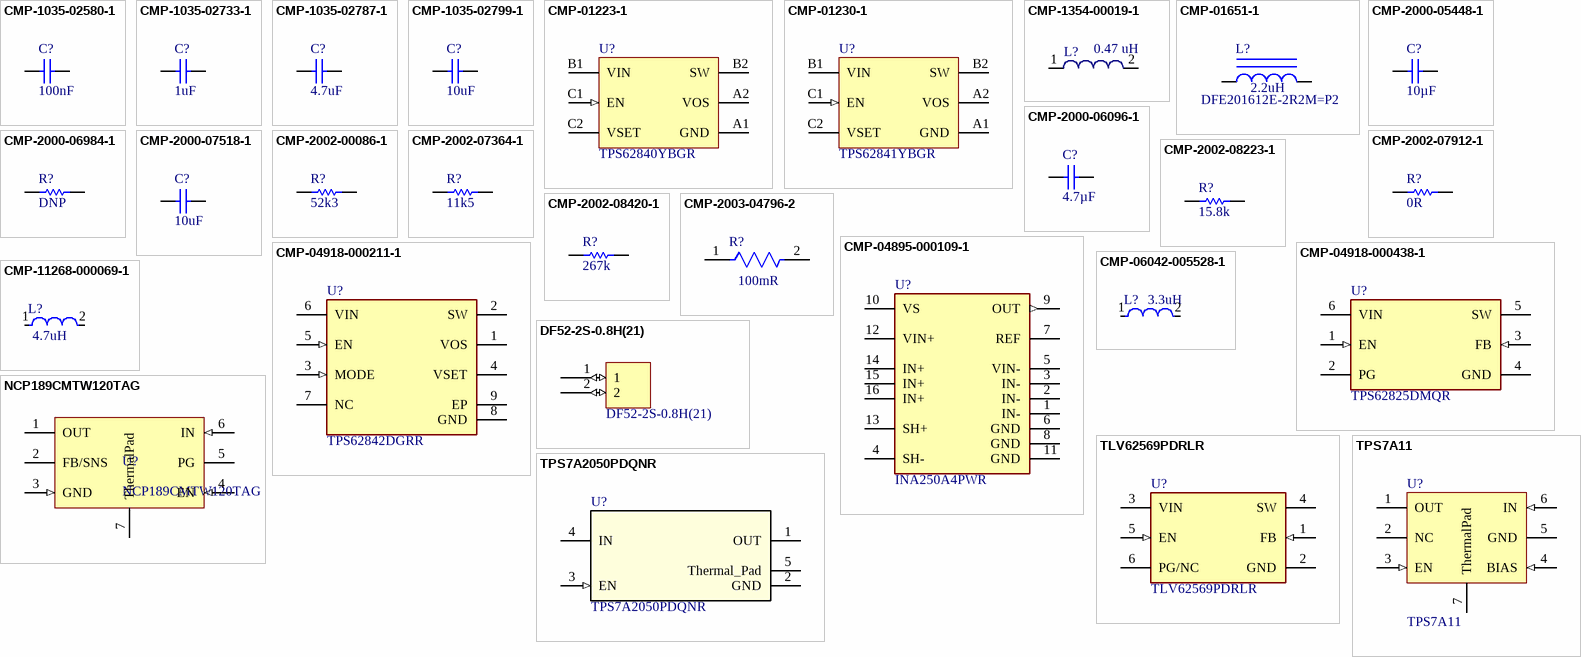
[diagram p1: symbols CMP-1035-02580-1 to TPS7A2050PDQNR]

## CMP-1035-02580-1
designator C?, comment value 100nF  (hidden comment: CAP 100nF 10V 0603(1608))
CAP 100nF 10V ±10% 0603 (1608 Metric) Thickness 1mm SMD; Manufacturer: KEMET; Manufacturer Part Number: C0603C104K8RACTU; Manufacturer: Kyocera AVX; Manufacturer Part Number: 0603ZC104KAT2A; Manufacturer: Vishay Vitramon; Manufacturer Part Number: VJ0603Y104KXQPW1BC; Manufacturer Part Number: C0603C104K8RACTM; Manufacturer Part Number: 0603ZC104KAT4A; Manufacturer Part Number: C0603C104K8RAC; Manufacturer Part Number: VJ0603Y104KXQCW1BC; Manufacturer Part Number: 0603ZC104KAT9A; Tolerance: Â±10%; Case-EIA: 0603; Case-Metric: 1608; Max Thickness: 1 mm; Rated Voltage: 10 V; Technology: SMT
footprint CAPC0603(1608)100_M (Chip Capacitor, Body 1.6x0.8mm, Height 1.0mm, IPC Low Density)
footprint CAPC0603(1608)100_N (Chip Capacitor, Body 1.6x0.8mm, Height 1.0mm, IPC Medium Density)
footprint CAPC0603(1608)100_L (Chip Capacitor, Body 1.6x0.8mm, Height 1.0mm, IPC High Density)
pins: 1, 2
1 alternate drawing of the same symbol

## CMP-1035-02733-1
designator C?, comment 1uF
CAP 1uF 10V ±10% 0603 (1608 Metric) Thickness 1mm SMD; Manufacturer: KEMET; Manufacturer Part Number: C0603C105K8RACTU; Manufacturer: Murata; Manufacturer Part Number: GRM188R71A105KA61D; Manufacturer: Vishay; Manufacturer Part Number: VJ0603Y105KXQPW1BC; Manufacturer: Kyocera AVX; Manufacturer Part Number: 0603ZD105KAT2A; Manufacturer Part Number: C0603C105K8PAC; Manufacturer Part Number: VJ0603Y105KXQCW1BC; Manufacturer Part Number: 0603ZC105KAT2A; Manufacturer Part Number: VJ0603G105KXQPW1BC; Manufacturer Part Number: C0603C105K8PACTU; Manufacturer Part Number: 0603ZD105KAT4A; Manufacturer Part Number: 0603ZC105KAT4A; Manufacturer: TDK; Manufacturer Part Number: C1608X5R1A105K; Manufacturer Part Number: C0603C105K8RAC; Manufacturer Part Number: VJ0603G105KXQCW1BC; Manufacturer: Yageo; Manufacturer Part Number: CC0603KRX5R6BB105; Manufacturer Part Number: C1608X7R1A105K; Tolerance: Â±10%; Case-EIA: 0603; Case-Metric: 1608; Rated Voltage: 10 V; Max Thickness: 1 mm; Value: 1uF; Technology: SMT
footprint CAPC0603(1608)100_M (Chip Capacitor, Body 1.6x0.8mm, Height 1.0mm, IPC Low Density)
footprint CAPC0603(1608)100_N (Chip Capacitor, Body 1.6x0.8mm, Height 1.0mm, IPC Medium Density)
footprint CAPC0603(1608)100_L (Chip Capacitor, Body 1.6x0.8mm, Height 1.0mm, IPC High Density)
pins: 1, 2
1 alternate drawing of the same symbol

## CMP-1035-02787-1
designator C?, comment 4.7uF
CAP 4.7uF 10V ±20% 0603 (1608 Metric) Thickness 1mm SMD; Manufacturer: TDK; Manufacturer Part Number: C1608X5R1A475M/0.50; Manufacturer Part Number: C1608X6S1A475M; Manufacturer: Kyocera AVX; Manufacturer Part Number: 0603ZD475MAT2A; Manufacturer: KEMET; Manufacturer Part Number: C0603C475M8PACTU; Manufacturer Part Number: C1608X5R1A475M/0.80; Manufacturer Part Number: C0603C475M8PAC; Case-EIA: 0603; Case-Metric: 1608; Tolerance: Â±20%; Value: 4.7uF; Max Thickness: 1 mm; Technology: SMT; Rated Voltage: 10 V
footprint CAPC0603(1608)100_M (Chip Capacitor, Body 1.6x0.8mm, Height 1.0mm, IPC Low Density)
footprint CAPC0603(1608)100_L (Chip Capacitor, Body 1.6x0.8mm, Height 1.0mm, IPC High Density)
footprint CAPC0603(1608)100_N (Chip Capacitor, Body 1.6x0.8mm, Height 1.0mm, IPC Medium Density)
pins: 1, 2
1 alternate drawing of the same symbol

## CMP-1035-02799-1
designator C?, comment value 10uF  (hidden comment: CAP 10uF 10V 0603(1608))
CAP 10uF 10V ±10% 0603 (1608 Metric) Thickness 1mm SMD; Manufacturer: TDK; Manufacturer Part Number: C1608X5R1A106K; Tolerance: Â±10%; Case-Metric: 1608; Case-EIA: 0603; Max Thickness: 1 mm; Technology: SMT; Rated Voltage: 10 V
footprint CAPC0603(1608)100_N (Chip Capacitor, Body 1.6x0.8mm, Height 1.0mm, IPC Medium Density)
footprint CAPC0603(1608)100_M (Chip Capacitor, Body 1.6x0.8mm, Height 1.0mm, IPC Low Density)
footprint CAPC0603(1608)100_L (Chip Capacitor, Body 1.6x0.8mm, Height 1.0mm, IPC High Density)
pins: 1, 2
1 alternate drawing of the same symbol

## CMP-01223-1
designator U?, comment TPS62840YBGR
Switching Voltage Regulators 60-nA IQ, 1.8-V to 6.5-VIN, high-efficiency 750-mA step-down converter 6-DSBGA -40 to 125; Output Voltage: 1.8 V to 3.3 V; Input Voltage MIN: 1.8 V; Input Voltage: 1.8 V to 6.5 V; Input Voltage MAX: 6.5 V; Brand: Texas Instruments; Switching Frequency: 1.8 MHz; Output Current: 750 mA; Number of Outputs: 1 Output; Topology: Buck; Quiescent Current: 60 nA; Factory Pack Quantity: 3000; Minimum Operating Temperature: - 40 C; Maximum Operating Temperature: + 125 C; Series: TPS62840; Package/Case: DSBGA-6; Shutdown: Shutdown; Manufacturer: Texas Instruments; Mounting Style: SMD/SMT; Type: Step-Down Converter; Supply Voltage - Min: 1.8 V; Product Type: Switching Voltage Regulators; Subcategory: PMIC - Power Management ICs; Product Category: Switching Voltage Regulators; Manufacturer Part Number: TPS62840YBGR
footprint BGA6C40P2X3_97X147X50 (BGA, 6-Leads, Body 0.97x1.47mmx0.50mm, Pitch 0.40mm)
pins: A1 GND (power), A2 VOS, B1 VIN (power), B2 SW (power), C1 EN (in), C2 VSET

## CMP-01230-1
designator U?, comment TPS62841YBGR
Switching Voltage Regulators 60-nA IQ, 1.8-V to 6.5-VIN, high-efficiency 750-mA step-down converter 6-DSBGA -40 to 125; Brand: Texas Instruments; Topology: Buck; Number of Outputs: 1 Output; Quiescent Current: 60 nA; Output Current: 750 mA; Input Voltage MAX: 6.5 V; Output Voltage: 0.8 V to 1.55 V; Input Voltage: 1.8 V to 6.5 V; Switching Frequency: 1.8 MHz; Input Voltage MIN: 1.8 V; Mounting Style: SMD/SMT; Minimum Operating Temperature: - 40 C; Subcategory: PMIC - Power Management ICs; Maximum Operating Temperature: + 125 C; Series: TPS62840; Product Type: Switching Voltage Regulators; Type: Step-Down Converter; Factory Pack Quantity: 3000; Shutdown: Shutdown; Manufacturer Part Number: TPS62841YBGR; Manufacturer: Texas Instruments; Supply Voltage - Min: 1.8 V; Package/Case: DSBGA-6
footprint BGA6C40P2X3_97X147X50 (BGA, 6-Leads, Body 0.97x1.47mmx0.50mm, Pitch 0.40mm)
pins: A1 GND (power), A2 VOS, B1 VIN (power), B2 SW (power), C1 EN (in), C2 VSET

## CMP-1354-00019-1
designator L?, comment Inductance: 0.47 uH  (hidden comment: 744040320047)
WE-LQS SMD Power Inductor, L=0.47; Manufacturer: Wuerth Elektronik; Manufacturer: Wurth Electronics; PartNumber: 744040320047; ComponentLink2URL: http://katalog.we-online.de/pbs/datasheet/744040320047.pdf; ComponentLink1URL: http://www.we-online.com; ComponentLink1Description: Manufacturer URL; ComponentLink2Description: Datasheet; PackageReference: WE-LQS 3015; Manufacturer Part Number: 744040320047
footprint WE-LQS 3015 (SMD Power Inductor, 2-Leads, Body 3.0x3.0mm)
pins: 1, 2

## CMP-01651-1
designator L?, comment DFE201612E-2R2M=P2  value 2.2uH
2.2µH Shielded Wirewound Inductor 1.8A 116mOhm Max 0806 (2016 Metric); Manufacturer: Murata Electronics; Inductance: 2,2µH; Current Rating (Amps): 1,8A; Tolerance: ±20%; Material - Core: Metal; Current - Saturation: 2.4A; Inductance Frequency - Test: 1MHz; DC Resistance (DCR): 116mOhm Max; Ratings: -; Series: DFE201612E; Operating Temperature: -40°C ~ 125°C; Features: -; Package / Case: 0806 (2016 Metric); Q @ Freq: -; Packaging: Tape & Reel (TR); Mounting Type: Surface Mount; Frequency - Self Resonant: -; Part Status: Active; Shielding: Shielded; Type: Wirewound; Supplier Device Package: 0806; Manufacturer Part Number: DFE201612E-2R2M=P2
footprint INDC2016X10N (Chip Inductor, 2-Leads, Body 2.05x1.65mm, IPC Medium Density)
footprint INDC2016X10L (Chip Inductor, 2-Leads, Body 2.05x1.65mm, IPC High Density)
footprint INDC2016X10M (Chip Inductor, 2-Leads, Body 2.05x1.65mm, IPC Low Density)
pins: 1, 2

## CMP-2000-05448-1
designator C?, comment Capacitance: 10µF  (hidden comment: GRM188R61A106KE69D)
Chip Capacitor, 10 uF, +/- 10%, 10 V, -55 to 85 degC, 0603 (1608 Metric), RoHS, Tape and Reel; Manufacturer: MurataElectronicsNorthAmerica; Manufacturer: Murata; Temperature Coefficient: X5R; Voltage - Rated: 10V; Lead Style: -; Lead Spacing: -; Tolerance: ±10%; Ratings: -; Datasheet Version: Jan-16; Family: CeramicCapacitors; Operating Temperature: -55degC~85degC; Packaging: Tape&amp;Reel(TR); Category: Capacitors; Height - Seated (Max): -; Mounting Type: SurfaceMount,MLCC; Package / Case: 0603(1608Metric); Manufacturer URL: http://www.murata.com/; Features: DeratingRecommended; Datasheet URL: http://download.siliconexpert.com/pdfs/2016/1/10/16/9/32/907/mrt_/manual/8524065979636922grm188r61a106ke6923.pdf; Series: GRM; Applications: GeneralPurpose; Manufacturer Part Number: GRM188R61A106KE69D
footprint CAPC1608X95X38ML15T18 (Chip Capacitor, 2-Leads, Body 1.75x0.95mm, IPC Low Density)
footprint CAPC1608X95X38NL15T18 (Chip Capacitor, 2-Leads, Body 1.75x0.95mm, IPC Medium Density)
footprint CAPC1608X95X38LL15T18 (Chip Capacitor, 2-Leads, Body 1.75x0.95mm, IPC High Density)
pins: 1, 2

## CMP-2000-06096-1
designator C?, comment Capacitance: 4.7µF  (hidden comment: CL10B475KQ8NQNC)
Chip Capacitor, 4.7 uF, +/- 10%, 6.3 V, -55 to 125 degC, 0603 (1608 Metric), RoHS, Tape and Reel; Manufacturer: Samsung Electro-Mechanics; Manufacturer: Samsung; Temperature Coefficient: X7R; Other Names: 1276-2087-2; Featured Product: Multi-LayerCeramicCapacitors; Voltage - Rated: 6.3V; Product Training Modules: AutoGradeMLCCHighCapMLCCFamilySoftTerminationMLCC; Online Catalog: CLSeries,HighCapacitance; RoHS Information: MLCCRoHS2Compliance; Package / Case: 0603(1608Metric); Datasheet URL: http://media.digikey.com/pdf/Data%20Sheets/Samsung%20PDFs/CL10B475KQ8NQNC_Spec.pdf; Family: CeramicCapacitors; Category: Capacitors; Packaging: Tape&Reel(TR); Operating Temperature: -55°C~125°C; Datasheet Version: 09/2013; Lead Spacing: -; Tolerance: ±10%; Mounting Type: SurfaceMount,MLCC; Ratings: -; Applications: GeneralPurpose; Height - Seated (Max): -; Series: CL; Package Reference: 0603; Manufacturer URL: http://www.samsungsem.com/global/index.jsp; Lead Style: -; Package Description: 2-Pin Surface Mount Device, Body 1.6 x 0.8 mm; Features: -; Mounting Technology: SurfaceMount; Standard Package: 4,000; Manufacturer Part Number: CL10B475KQ8NQNC
footprint CAPC1608X95X30LL15T20 (Chip Capacitor, 2-Leads, Body 1.75x0.95mm, IPC High Density)
footprint CAPC1608X95X30ML15T20 (Chip Capacitor, 2-Leads, Body 1.75x0.95mm, IPC Low Density)
footprint CAPC1608X95X30NL15T20 (Chip Capacitor, 2-Leads, Body 1.75x0.95mm, IPC Medium Density)
pins: 1, 2

## CMP-2000-06984-1
designator R?, comment DNP
Chip Resistor, 100 KOhm, +/- 1%, 63 mW, -55 to 155 degC, 0402 (1005 Metric), RoHS, Tape and Reel / RMCF0402FT100K; Manufacturer: Stackpole-Electronics-Inc.; Manufacturer: Stackpole Electronics; Temperature Coefficient: ±100ppm/°C; Power (Watts): 0.063W,1/16W; Resistance (Ohms): 100k; Category: Resistors; Mounting Technology: SurfaceMount; Family: ChipResistor-SurfaceMount; Package / Case: 0402(1005Metric); Supplier Device Package: 0402; Features: AutomotiveAEC-Q200; Package Reference: 0402; Operating Temperature: -55°C~155°C; Series: RMCF; Number of Terminations: 2; Package Description: 2-Pin Surface Mount Device, Body 1 x 0.5 mm; Datasheet Version: 01/2017; Tolerance: ±1%; Composition: ThickFilm; Packaging: CutTape(CT); Manufacturer URL: https://www.seielect.com/; Datasheet URL: https://www.seielect.com/Catalog/SEI-RMCF_RMCP.pdf; Manufacturer Part Number: RMCF0402FT100K
footprint RESC1005X40X25LL10T15 (Chip Resistor, 2-Leads, Body 1.1x0.55mm, IPC High Density)
footprint RESC1005X40X25ML10T15 (Chip Resistor, 2-Leads, Body 1.1x0.55mm, IPC Low Density)
footprint RESC1005X40X25NL10T15 (Chip Resistor, 2-Leads, Body 1.1x0.55mm, IPC Medium Density)
pins: 1, 2